# Altium integrated library Components - 25.08.25 - 12.23.IntLib: 1 symbol
Pins are listed as number, name and electrical type; pins without a type are passive.

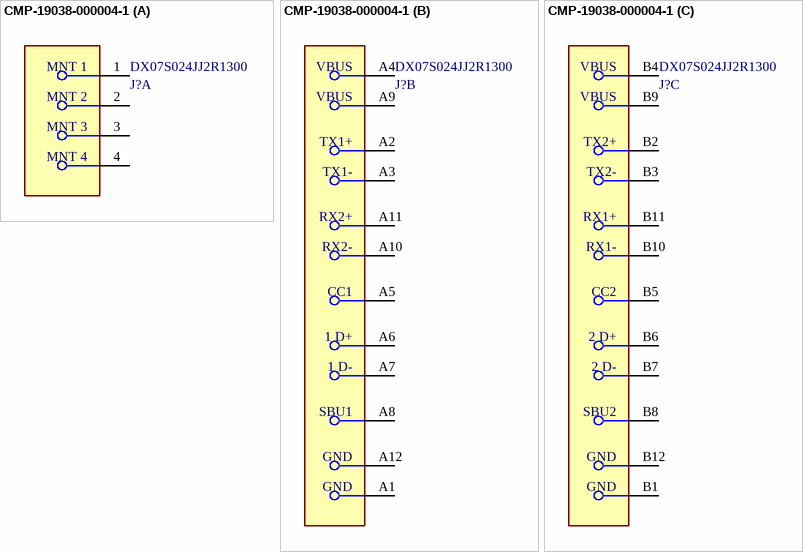
[diagram p0: symbol CMP-19038-000004-1]

## CMP-19038-000004-1
designator J?, comment DX07S024JJ2R1300
CONN RCP USB3.1 TYPEC 24P SMD RA; Number of Contacts: 24; Gender: Receptacle; Connector Type: USB; Features: Shielded; Packaging: Tape and Reel; Mount: Surface Mount; RoHS Compliant: Yes
footprint FP-DX07S024JJ2R1300-MFG
part A pins: 1 MNT 1, 2 MNT 2, 3 MNT 3, 4 MNT 4
part B pins: A1 GND (power), A2 TX1+, A3 TX1-, A4 VBUS (power), A5 CC1, A6 1 D+, A7 1 D-, A8 SBU1, A9 VBUS, A10 RX2-, A11 RX2+, A12 GND (power)
part C pins: B1 GND (power), B2 TX2+, B3 TX2-, B4 VBUS (power), B5 CC2, B6 2 D+, B7 2 D-, B8 SBU2, B9 VBUS (power), B10 RX1-, B11 RX1+, B12 GND (power)